# EAGLE library part 1554ЛИ3 (library std-logic-1554series)
АЕЯР.431200.182-08 ТУ 1554ЛИ3 - Три логических элемента “3И”. Изготовитель: ОАО "ИНТЕГРАЛ", г. Минск, р. Беларусь. Технические условия (ТБМ): АЕЯР.431200.182-08 ТУ Технические условия (УХЛ): АЕЯР.431200.093-01 ТУ
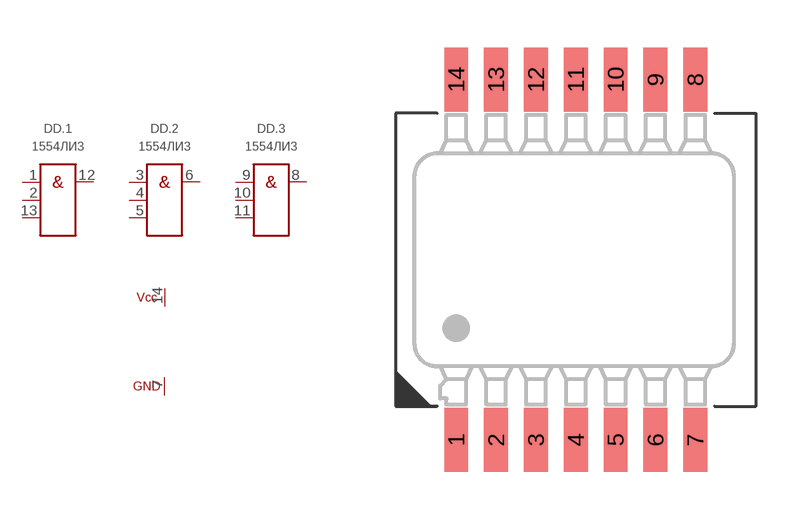
[diagram p48: symbol with the pads of 401.14-5; footprint 401.14-5]

Designator prefix DD; gates .1=1554ЛИ3 .2=1554ЛИ3 .3=1554ЛИ3 G$1=1554_PWR4

## 1554ЛИ3ТБМ  [401.14-5]
1  .1:A  in
2  .1:B  in
3  .2:A  in
4  .2:B  in
5  .2:C  in
6  .2:Y  out
7  G$1:GND  pwr
8  .3:Y  out
9  .3:A  in
10  .3:B  in
11  .3:C  in
12  .1:Y  out
13  .1:C  in
14  G$1:VCC  pwr

## Footprint 401.14-5 (pad centres in mm)
smd 0.75 x 2: 1 -3.7,-5.65; 2 -2.45,-5.65; 3 -1.2,-5.65; 4 0.05,-5.65; 5 1.3,-5.65; 6 2.55,-5.65; 7 3.8,-5.65; 8 3.8,5.65; 9 2.55,5.65; 10 1.3,5.65; 11 0.05,5.65; 12 -1.2,5.65; 13 -2.45,5.65; 14 -3.7,5.65